# Altium footprint library MLACH_obsolete.PCBLIB: 154 footprints (part 2 of 10)
Each footprint in its own frame and in the unit in brackets; x right, y up, seen from the top. Pads: shape width x height; smd on the part's side, far side on the other; paste and mask are expansions set on the pad; w line width, h text height; cw(c..) or ccw(c..) is an arc to the next point about the centre after c.
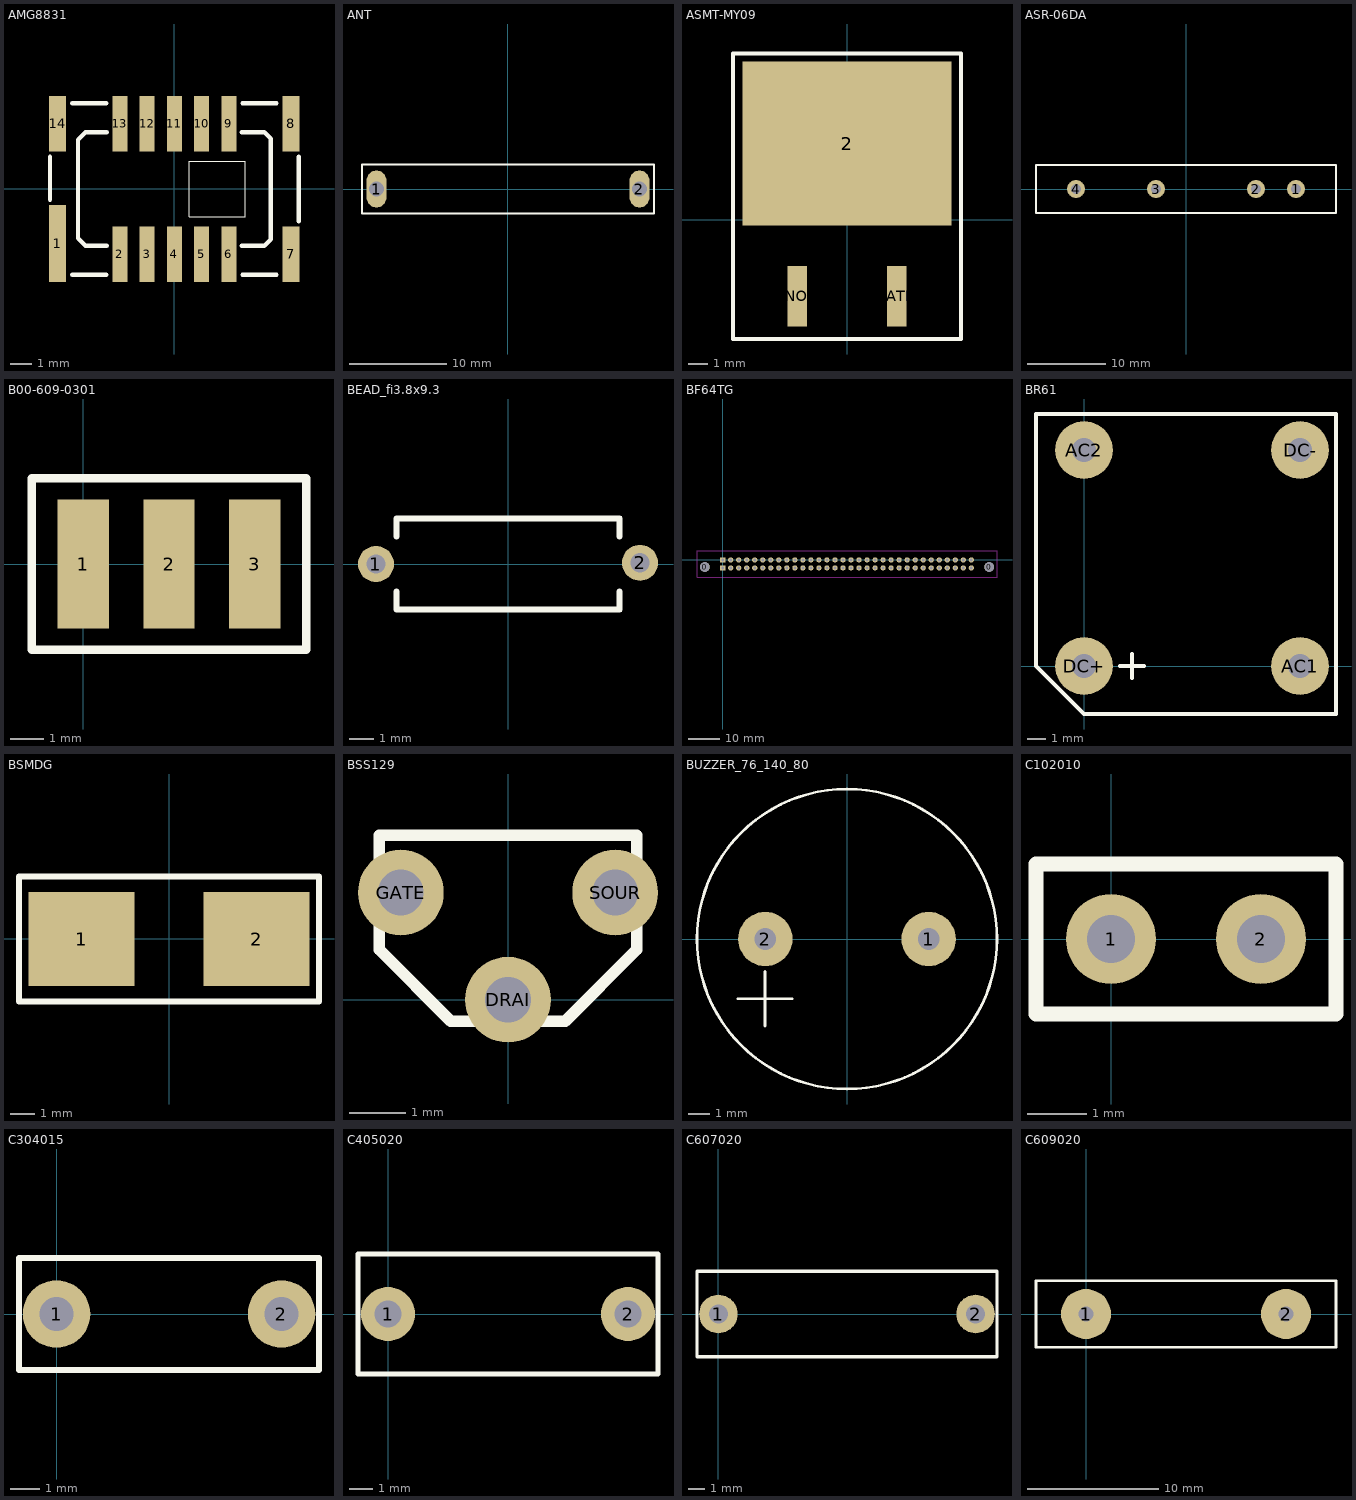
[diagram p1: the footprints below, top view; thin cyan lines are the x and y axes]

## AMG8831 [mm]
pads (14):
  rect 0.8x3.6 smd: 1(-5.45,-2.55)
  rect 0.7x2.6 smd: 2(-2.54,-3.05) 3(-1.27,-3.05) 4(0,-3.05) 5(1.27,-3.05) 6(2.54,-3.05) 9(2.54,3.05) 10(1.27,3.05) 11(0,3.05) 12(-1.27,3.05) 13(-2.54,3.05)
  rect 0.8x2.6 smd: 7(5.45,-3.05) 8(5.45,3.05) 14(-5.45,3.05)
TopOverlay:
  lines w0.05: 0.7,-1.3 3.3,-1.3 3.3,1.3 0.7,1.3 0.7,-1.3
  lines w0.2: -5.8,-0.5 -5.8,1.5 ; -4.763,-4 -3.175,-4 ; -4.763,4 -3.175,4 ; -3.15,-2.65 -4.15,-2.65 -4.5,-2.3 -4.5,2.3 -4.15,2.65 -3.15,2.65 ; 3.15,-2.65 4.2,-2.65 4.5,-2.35 4.5,2.35 4.2,2.65 3.15,2.65 ; 3.175,-4 4.763,-4 ; 3.175,4 4.763,4 ; 5.8,-1.5 5.8,1.5
3D body: height 4.35, standoff 2, extent 0.7,-1.3 3.3,1.3
3D body: height 1.5, standoff 0, extent -5.8,-4 5.8,4
3D body: height 4.3, standoff 1.5, extent -4.5,-2.65 4.5,2.65

## ANT [mil]
pads (2):
  oval 80x150 hole 60: 1(-531.5,0) 2(531.5,0)
TopOverlay:
  lines w8: -590.55,-98.43 590.55,-98.43 590.55,98.43 -590.55,98.43 -590.55,-98.43

## ASMT-MY09 [mm]
height 3.3
pads (3):
  rect 10.7x8.4 smd: 2(0,3.9)
  rect 1x3.1 smd: ANOD(-2.54,-3.9) CATH(2.54,-3.9)
TopOverlay:
  lines w0.203: -5.842,-6.096 5.842,-6.096 5.842,8.509 -5.842,8.509 -5.842,-6.096

## ASR-06DA [mil]
pads (4):
  round 90 hole 50: 1(550,0) 2(350,0) 3(-150,0) 4(-550,0)
TopOverlay:
  lines w10: -750,-120 750,-120 750,120 -750,120 -750,-120

## B00-609-0301 [mil]
pads (3):
  rect 60x150 smd: 1(0,0) 2(100,0) 3(200,0)
TopOverlay:
  lines w10: -60,-100 -60,100 260,100 260,-100 -60,-100

## BEAD_fi3.8x9.3 [mm]
pads (2):
  round 1.5 hole 0.8: 1(-5.5,0) 2(5.5,0.05)
TopOverlay:
  lines w0.254: -4.65,-1.15 -4.65,-1.9 4.65,-1.9 ; -4.65,1.15 -4.65,1.9 4.65,1.9 ; 4.65,-1.15 4.65,-1.9 ; 4.65,1.15 4.65,1.9 ; 4.65,-1.9 4.65,-1.9 ; 4.65,1.9 4.65,1.9
3D body: height 3.79, standoff 0, extent -4.65,-1.9 4.65,1.893

## BF64TG [mil]
pads (66):
  round 120 hole 120: 0(-221.65,-88.58) 0(3321.65,-88.58)
  rect 65x65 hole 35: 1(0,0) 33(0,-100)
  round 65 hole 35: 2(100,0) 3(200,0) 4(300,0) 5(400,0) 6(500,0) 7(600,0) 8(700,0) 9(800,0) 10(900,0) 11(1000,0) 12(1100,0) 13(1200,0) 14(1300,0) 15(1400,0) 16(1500,0) 17(1600,0) 18(1700,0) 19(1800,0) 20(1900,0) 21(2000,0) 22(2100,0) 23(2200,0) 24(2300,0) 25(2400,0) 26(2500,0) 27(2600,0) 28(2700,0) 29(2800,0) 30(2900,0) 31(3000,0) 32(3100,0) 34(100,-100) 35(200,-100) 36(300,-100) 37(400,-100) 38(500,-100) 39(600,-100) 40(700,-100) 41(800,-100) 42(900,-100) 43(1000,-100) 44(1100,-100) 45(1200,-100) 46(1300,-100) 47(1400,-100) 48(1500,-100) 49(1600,-100) 50(1700,-100) 51(1800,-100) 52(1900,-100) 53(2000,-100) 54(2100,-100) 55(2200,-100) 56(2300,-100) 57(2400,-100) 58(2500,-100) 59(2600,-100) 60(2700,-100) 61(2800,-100) 62(2900,-100) 63(3000,-100) 64(3100,-100)
KeepOutLayer:
  lines w10: -320.08,-219.29 -320.08,117.32 3420.08,117.32 3420.08,-219.29 -320.08,-219.29
  text "b" at -140,-180 h60
  text "a" at -160,40 h60

## BR61 [mil]
pads (4):
  round 120 hole 50: AC1(450,0) AC2(0,450) DC+(0,0) DC-(450,450)
TopOverlay:
  lines w8: 75,0 125,0 ; 100,-25 100,25 ; -100,0 0,-100 525,-100 525,525 -100,525 -100,0

## BSMDG [mil]
pads (2):
  rect 170x150 smd: 1(-140.49,-0.1) 2(139.51,-0.1)
TopOverlay:
  lines w10: -240.49,-100.1 -240.49,99.9 239.51,99.9 239.51,-100.1 -240.49,-100.1

## BSS129 [mil]
pads (3):
  round 60 hole 32: DRAI(0,0) GATE(-75,75) SOUR(75,75)
TopOverlay:
  lines w8: -90,35 -90,115 90,115 90,35 40,-15 -40,-15 -90,35

## BUZZER_76_140_80 [mil]
pads (2):
  round 100 hole 40: 1(150,0) 2(-150,0)
TopOverlay:
  circle w5: c0,0 r275.59
  lines w5: -200.79,-109.84 -100.79,-109.84 ; -150.79,-159.84 -150.79,-59.84
3D body: height 314.96, standoff 0, extent -275.59,-275.59 273.42,274.5
3D body: height 0, standoff -118.11, extent 137.8,-11.79 161.32,11.79
3D body: height 0, standoff -118.11, extent -161.32,-11.79 -137.8,11.79

## C102010 [mil]
pads (2):
  round 60 hole 32: 1(0,0) 2(100,0)
TopOverlay:
  lines w10: -50,-50 -50,50 150,50 150,-50 -50,-50

## C304015 [mil]
pads (2):
  round 90 hole 45: 1(0,0) 2(300,0)
TopOverlay:
  lines w8: -50,-75 350,-75 350,75 -50,75 -50,-75

## C405020 [mil]
pads (2):
  round 90 hole 45: 1(0,0) 2(400,0)
TopOverlay:
  lines w8: -50,-100 -50,100 450,100 450,-100 -50,-100

## C607020 [mil]
pads (2):
  round 90 hole 45: 1(0,0) 2(600,0)
TopOverlay:
  lines w8: -50,-100 -50,100 650,100 650,-100 -50,-100

## C609020 [mil]
pads (2):
  round 150 hole 45: 1(0,0) 2(600,0)
TopOverlay:
  lines w8: -150,-100 750,-100 750,100 -150,100 -150,-100